# EAGLE library part 668-NC-S16204XRYHS (library EELE_465)
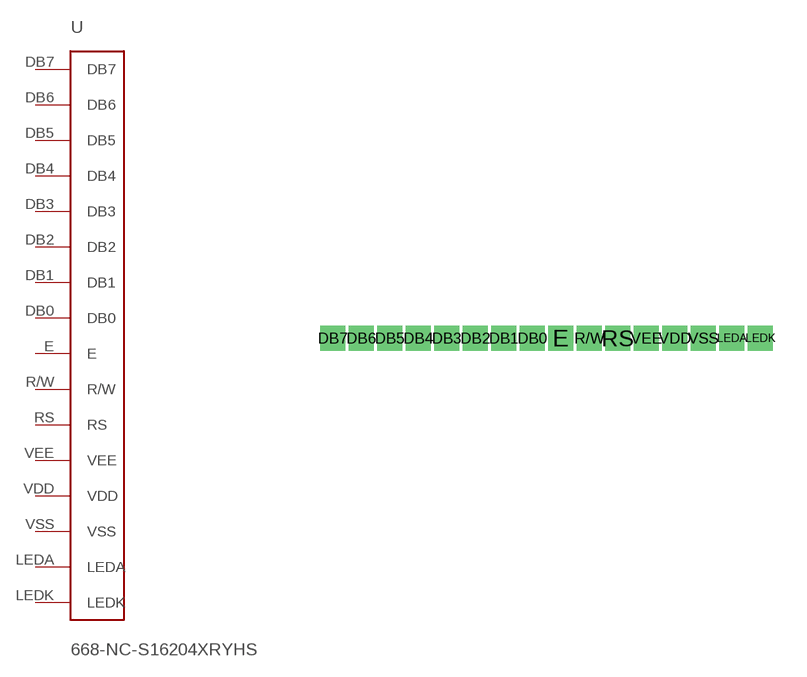
[diagram p0: symbol with the pads of 668-NC-S16204XRYHS; footprint 668-NC-S16204XRYHS]

Designator prefix -

## 668-NC-S16204XRYHS  [668-NC-S16204XRYHS]
DB0  DB0
DB1  DB1
DB2  DB2
DB3  DB3
DB4  DB4
DB5  DB5
DB6  DB6
DB7  DB7
E  E
LEDA  LEDA
LEDK  LEDK
R/W  R/W
RS  RS
VDD  VDD
VEE  VEE
VSS  VSS

## Footprint 668-NC-S16204XRYHS (pad centres in mm)
drill 0.6 square: DB0 8.89,0; DB1 7.62,0; DB2 6.35,0; DB3 5.08,0; DB4 3.81,0; DB5 2.54,0; DB6 1.27,0; DB7 0,0; E 10.16,0; LEDA 17.78,0; LEDK 19.05,0; R/W 11.43,0; RS 12.7,0; VDD 15.24,0; VEE 13.97,0; VSS 16.51,0